# Altium schematic symbol library rgbleds.SchLib: 4 symbols
Pins are listed as number, name and electrical type; pins without a type are passive.

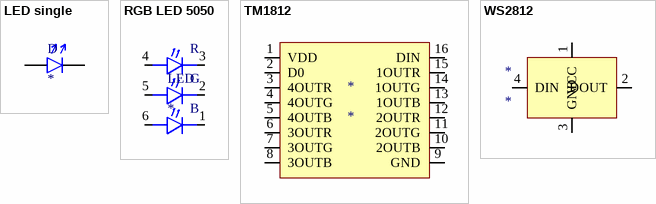
[diagram p0: symbols LED single to WS2812]

## LED single
designator D
footprint LED0805
pins: 1 A, 2

## RGB LED 5050
designator LED
footprint CAPMP5050X16M (Molded Capacitor, 2-Leads, Body 5,05x5,05mm, IPC Low Density)
pins: 1, 2, 3, 4, 5, 6
text: R; G; B

## TM1812
designator *
footprint SOP127P600X175-16M (SOP, 16-Leads, Body 10,00x3,90mm, Pitch 1,27mm, IPC Low Density)
pins: 1 VDD, 2 D0, 3 4OUTR, 4 4OUTG, 5 4OUTB, 6 3OUTR, 7 3OUTG, 8 3OUTB, 9 GND, 10 2OUTB, 11 2OUTG, 12 2OUTR, 13 1OUTB, 14 1OUTG, 15 1OUTR, 16 DIN

## WS2812
designator *
footprint WS2812B-Mini
pins: 1 VCC, 2 DOUT, 3 GND, 4 DIN